# Altium footprint library PowerSupplyGOST.PcbLib: 13 footprints
Each footprint in its own frame and in the unit in brackets; x right, y up, seen from the top. Pads: shape width x height; smd on the part's side, far side on the other; paste and mask are expansions set on the pad; w line width, h text height; cw(c..) or ccw(c..) is an arc to the next point about the centre after c.
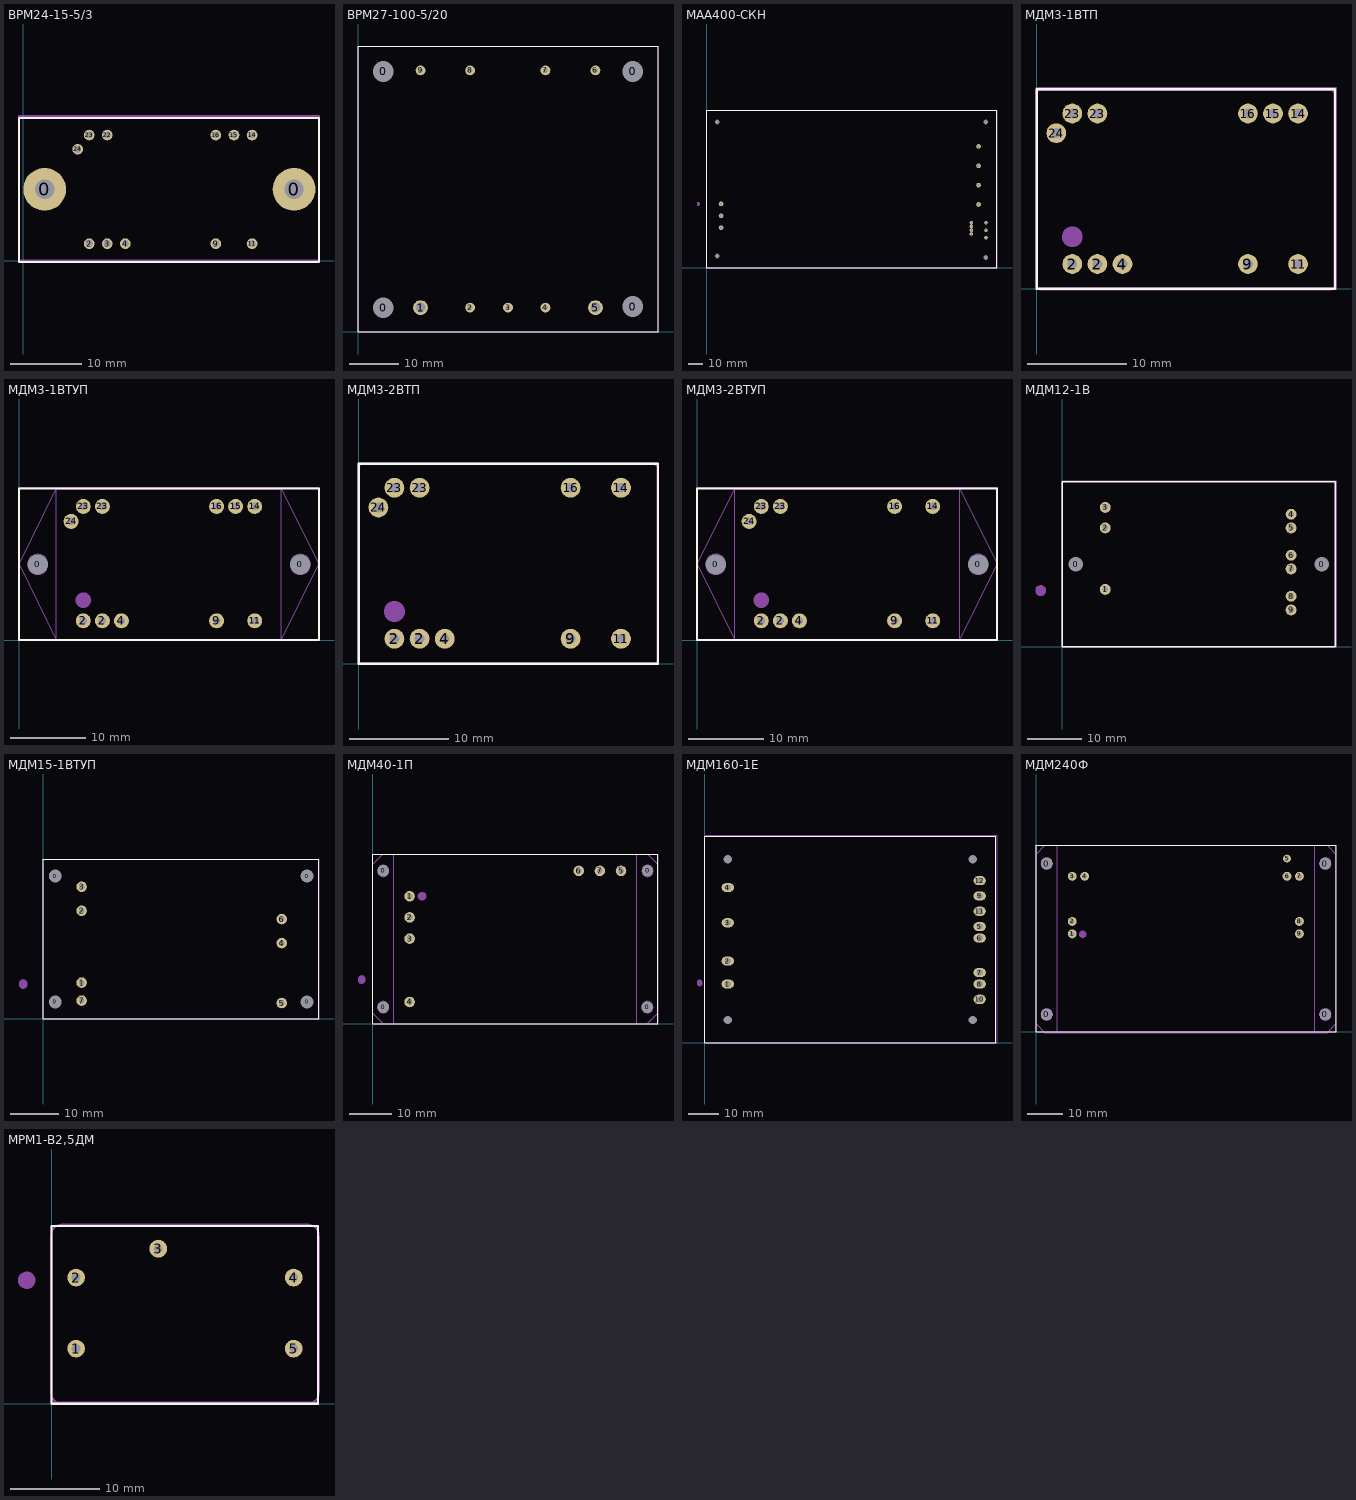
[diagram p0: the footprints below, top view; thin cyan lines are the x and y axes]

## ВРМ24-15-5/3 [mm]
height 10.2
pads (13):
  round 6 hole 2.7 unplated: 0(3,10) 0(38,10)
  round 1.5 hole 1: 2(9.25,2.38) 3(11.79,2.38) 4(14.33,2.38) 9(27.03,2.38) 11(32.11,2.38) 14(32.11,17.62) 15(29.57,17.62) 16(27.03,17.62) 22(11.79,17.62) 23(9.25,17.62) 24(7.63,15.63)
Top Overlay:
  lines w0.254: -0.6,-0.2 41.5,-0.2 41.5,20 -0.6,20 -0.6,-0.2
Top Sborka:
  lines w0.25: -0.6,0 41.5,0 41.5,20.3 -0.6,20.3 -0.6,0
Top Designator (Mech16):
  text ".Designator" at 14.85,9.353 h2.5
3D body "Сборка ВРМ24-15 со стойками.stp": height 14, standoff -6, extent 0.9,-0.1 40.9,19.9

## ВРМ27-100-5/20 [mm]
pads (13):
  round 3 hole 4.2 unplated: 0(5.1,4.875) 0(5.1,52.9) 0(55.9,5.1) 0(55.9,52.9)
  round 3 hole 2: 1(12.72,4.875) 5(48.28,4.875)
  round 2 hole 1: 2(22.8,4.875) 3(30.5,4.875) 4(38.12,4.875) 6(48.28,53.125) 7(38.12,53.125) 8(22.8,53.125) 9(12.72,53.125)
Top Overlay:
  lines w0.1: 0,0 0,58 61,58 61,0 0,0
Top Sborka:
  lines w0.1: 0,0 0,58 61,58 61,0 0,0
Top Designator (Mech16):
  text ".Designator" at 25.35,28.453 h2.5
3D body "ВРМ27-100.stp": height 14, standoff -4, extent 0,0 61,58

## МАА400-СКН [mm]
pads (18):
  rrect30% 0x0 hole 3.2 unplated: 0(7,8) 0(7,98) 0(187.5,7) 0(187.5,98)
  round 3.1 hole 2.1: 1(9.6,43) 2(9.6,35) 3(9.6,27) 7(182.6,42.6) 8(182.6,55.6) 9(182.6,68.6) 10(182.6,81.6)
  round 2.4 hole 1.4: 4(187.6,20.3) 5(187.6,25.3) 6(187.6,30.3) 11(177.8,22.8) 12(177.8,25.3) 13(177.8,27.8) 14(177.8,30.3)
Top Overlay:
  lines w0.254: 0,0 195,0 195,106 0,106 0,0
Top Sborka:
  circle w0.25: c-5.7,43 r0.704
  circle w0.25: c-5.7,43 r0.292
  circle w0.25: c-5.7,43 r0.861
  circle w0.25: c-5.7,43 r0.506
  circle w0.25: c-5.7,43 r0.09
  lines w0.25: 0,0 195,0 195,106 0,106 0,0
Top Designator (Mech16):
  text ".Designator" at 89.071,52.453 h2.5

## МДМ3-1ВТП [mm]
pads (11):
  round 2 hole 1: 2(3.6,2.525) 2(6.14,2.525) 4(8.68,2.525) 9(21.38,2.525) 11(26.46,2.525) 14(26.46,17.765) 15(23.92,17.765) 16(21.38,17.765) 23(3.6,17.765) 23(6.14,17.765) 24(1.98,15.775)
Top Overlay:
  lines w0.25: 0,0 30.2,0 30.2,20.2 0,20.2 0,0
Mechanical 1:
  circle w2: c3.6,5.275 r0.05
  lines w0.15: -0.075,19.745 -0.075,0.35 ccw(c0.31,0.335) 0.295,-0.05 ; -0.075,19.775 cw(c0.31,19.76) 0.325,20.145 29.755,20.145 ; 0.295,-0.055 29.755,-0.055 ; 29.725,-0.055 ccw(c29.74,0.33) 30.125,0.315 30.125,19.75 ccw(c29.74,19.765) 29.755,20.15
Top Sborka:
  lines w0.25: 0,0 30.3,0 30.3,20.3 0,20.3 0,0
Top Designator (Mech16):
  text ".Designator" at 9.85,9.453 h2.5
3D body "БКЯЮ.735313.001 Корпус 1C.stp": height 11.65, standoff 0.95, extent 0,0 30,20
3D body "d0.8.stp": height 10, standoff -5, extent 1.47,15.256 2.486,16.274
3D body "d0.8.stp": height 10, standoff -5, extent 3.09,17.256 4.106,18.274
3D body "d0.8.stp": height 10, standoff -5, extent 5.63,17.256 6.646,18.274
3D body "d0.8.stp": height 10, standoff -5, extent 20.87,17.256 21.886,18.274
3D body "d0.8.stp": height 10, standoff -5, extent 23.41,17.256 24.426,18.274
3D body "d0.8.stp": height 10, standoff -5, extent 25.95,17.256 26.966,18.274
3D body "d0.8.stp": height 10, standoff -5, extent 25.95,2.016 26.966,3.034
3D body "d0.8.stp": height 10, standoff -5, extent 20.87,2.016 21.886,3.034
3D body "d0.8.stp": height 10, standoff -5, extent 8.17,2.016 9.186,3.034
3D body "d0.8.stp": height 10, standoff -5, extent 5.63,2.016 6.646,3.034
3D body "d0.8.stp": height 10, standoff -5, extent 3.09,2.016 4.106,3.034
3D body: height 12, standoff 10, extent 2.601,1.528 4.6,3.523
3D body: height 2, standoff 1.08, extent 0.8,1.025 28.95,18.975

## МДМ3-1ВТУП [mm]
pads (13):
  round 1.524 hole 2.7 unplated: 0(2.5,10.1) 0(37.5,10.1)
  round 2 hole 1: 2(8.57,2.58) 2(11.11,2.58) 4(13.65,2.58) 9(26.35,2.58) 11(31.43,2.58) 14(31.43,17.82) 15(28.89,17.82) 16(26.35,17.82) 23(8.57,17.82) 23(11.11,17.82) 24(6.95,15.83)
Top Overlay:
  lines w0.254: 0,0 0,20.2 40,20.2 40,0 0,0
Mechanical 1:
  circle w2: c8.57,5.33 r0.05
  circle w0.1: c2.5,10.1 r1.35
  circle w0.1: c37.5,10.1 r1.35
  lines w0.15: 5,0 0,10.1 5,20.2 ; 5,0 5,20.2 ; 5,0 5,20.2 ; 5,0 35,0 ; 5,20.2 35,20.2 ; 35,0 40,10.1 35,20.2 ; 35,0 35,20.2
Top Sborka:
  lines w0.25: 0,0 40,0 40,20.3 0,20.3 0,0
Top Designator (Mech16):
  text ".Designator" at 14.85,9.602 h2.5
3D body "VDV8-1.stp": height 10.2, standoff -5.95, extent 0.02,0.005 40.02,20.205

## МДМ3-2ВТП [mm]
pads (10):
  round 2 hole 1: 2(3.6,2.525) 2(6.14,2.525) 4(8.68,2.525) 9(21.38,2.525) 11(26.46,2.525) 14(26.46,17.765) 16(21.38,17.765) 23(3.6,17.765) 23(6.14,17.765) 24(1.98,15.775)
Top Overlay:
  lines w0.25: 0,0 0,20.2 30.2,20.2 30.2,0 0,0
Mechanical 1:
  circle w2: c3.6,5.275 r0.05
  lines w0.15: -0.075,19.745 -0.075,0.35 ccw(c0.31,0.335) 0.295,-0.05 ; -0.075,19.775 cw(c0.31,19.76) 0.325,20.145 29.755,20.145 ; 0.295,-0.055 29.755,-0.055 ; 29.725,-0.055 ccw(c29.74,0.33) 30.125,0.315 30.125,19.75 ccw(c29.74,19.765) 29.755,20.15
Top Sborka:
  lines w0.25: 0,0 30.2,0 30.2,20.2 0,20.2 0,0
Top Designator (Mech16):
  text ".Designator" at 9.85,9.453 h2.5
3D body "БКЯЮ.735313.001 Корпус 1C.stp": height 11.65, standoff 0.95, extent 0,0 30,20
3D body "d0.8.stp": height 10, standoff -5, extent 1.47,15.256 2.486,16.274
3D body "d0.8.stp": height 10, standoff -5, extent 3.09,17.256 4.106,18.274
3D body "d0.8.stp": height 10, standoff -5, extent 5.63,17.256 6.646,18.274
3D body "d0.8.stp": height 10, standoff -5, extent 20.87,17.256 21.886,18.274
3D body "d0.8.stp": height 10, standoff -5, extent 25.95,17.256 26.966,18.274
3D body "d0.8.stp": height 10, standoff -5, extent 25.95,2.016 26.966,3.034
3D body "d0.8.stp": height 10, standoff -5, extent 20.87,2.016 21.886,3.034
3D body "d0.8.stp": height 10, standoff -5, extent 8.17,2.016 9.186,3.034
3D body "d0.8.stp": height 10, standoff -5, extent 5.63,2.016 6.646,3.034
3D body "d0.8.stp": height 10, standoff -5, extent 3.09,2.016 4.106,3.034
3D body: height 12, standoff 10, extent 2.601,1.528 4.6,3.523
3D body: height 2, standoff 1.08, extent 0.8,1.025 28.95,18.975

## МДМ3-2ВТУП [mm]
pads (12):
  round 1.524 hole 2.7 unplated: 0(2.5,10.1) 0(37.5,10.1)
  round 2 hole 1: 2(8.571,2.582) 2(11.111,2.582) 4(13.651,2.582) 9(26.351,2.582) 11(31.431,2.582) 14(31.431,17.822) 16(26.351,17.822) 23(8.571,17.822) 23(11.111,17.822) 24(6.951,15.832)
Top Overlay:
  lines w0.254: 0,0 0,20.2 40,20.2 40,0 0,0
Mechanical 1:
  circle w0.1: c37.501,10.102 r1.35
  circle w0.1: c2.501,10.102 r1.35
  circle w2: c8.571,5.332 r0.05
  lines w0.15: 5.001,0.002 35.001,0.002 ; 5.001,0.002 5.001,20.202 ; 5.001,0.002 5.001,20.202 ; 5.001,0.002 0.001,10.102 5.001,20.202 ; 5.001,20.202 35.001,20.202 ; 35.001,0.002 35.001,20.202 ; 35.001,0.002 40.001,10.102 35.001,20.202
Top Sborka:
  lines w0.25: 0,0 40,0 40,20.3 0,20.3 0,0
Top Designator (Mech16):
  text ".Designator" at 14.85,9.602 h2.5
3D body "VDV8-2.stp": height 10.2, standoff -5.95, extent -0.004,0.007 39.996,20.207

## МДМ12-1В [mm]
pads (11):
  round 2 hole 2.7 unplated: 0(2.5,15.1) 0(47.5,15.1)
  round 2 hole 1: 1(7.9,10.5) 2(7.9,21.75) 3(7.9,25.5) 4(41.9,24.25) 5(41.9,21.75) 6(41.9,16.75) 7(41.9,14.25) 8(41.9,9.25) 9(41.886,6.75)
Top Overlay:
  lines w0.254: 0,0 50,0 50,30.2 0.1,30.2 0,30.1 0,0
Top Sborka:
  circle w0.25: c-3.9,10.3 r0.09
  circle w0.25: c-3.9,10.3 r0.506
  circle w0.25: c-3.9,10.3 r0.861
  circle w0.25: c-3.9,10.3 r0.292
  circle w0.25: c-3.9,10.3 r0.704
  lines w0.25: 0,0 50.1,0 50.1,30.3 0,30.3 0,0
Top Designator (Mech16):
  text ".Designator" at 17.52,14.602 h2.5

## МДМ15-1ВТУП [mm]
pads (11):
  round 1.524 hole 2.7 unplated: 0(2.5,3.5) 0(2.5,29.7) 0(55,3.5) 0(55,29.7)
  round 2.2 hole 1.2: 1(8,7.5) 2(8,22.5) 3(8,27.5) 4(49.75,15.75) 5(49.75,3.25) 6(49.75,20.75) 7(8,3.75)
Top Overlay:
  lines w0.254: 0,0 57.5,0 57.5,33.2 0,33.2 0,0
Top Sborka:
  circle w0.25: c-4.2,7.2 r0.704
  circle w0.25: c-4.2,7.2 r0.292
  circle w0.25: c-4.2,7.2 r0.861
  circle w0.25: c-4.2,7.2 r0.506
  circle w0.25: c-4.2,7.2 r0.09
  lines w0.25: 0,0 57.5,0 57.5,33.2 0,33.2 0,0
Top Designator (Mech16):
  text ".Designator" at 21.071,16.053 h2.5

## МДМ40-1П [mm]
pads (11):
  round 2 hole 2.7 unplated: 0(2.5,4) 0(2.5,36.2) 0(64.975,4) 0(65.025,36.2)
  round 2.5 hole 1.3: 1(8.75,30.2) 2(8.75,25.2) 3(8.75,20.2) 4(8.75,5.2) 5(58.75,36.2) 6(48.75,36.2) 7(53.75,36.2)
Top Overlay:
  lines w0.254: 0,0 67.5,0 67.5,40.2 0,40.2 0,0
Mechanical 1:
  circle w0.1: c2.5,36.2 r1.35
  circle w0.1: c2.5,4 r1.35
  circle w0.1: c65.025,36.2 r1.35
  circle w0.1: c64.975,4 r1.35
  lines w0.15: 5,3.5 5,36.7 ; 10,0 64.975,0 67.5,2.525 67.5,37.725 65.025,40.2 10,40.2 ; 47.5,0 2.5,0 0,2.5 0,37.75 2.45,40.2 47.5,40.2 ; 52.5,0 5,0 5,40.2 52.5,40.2 ; 62.5,0 62.5,40.2
  lines w2: 11.663,30.166 cw(c11.7,30.2) 11.75,30.2
Top Sborka:
  circle w0.25: c-2.6,10.5 r0.09
  circle w0.25: c-2.6,10.5 r0.506
  circle w0.25: c-2.6,10.5 r0.861
  circle w0.25: c-2.6,10.5 r0.292
  circle w0.25: c-2.6,10.5 r0.704
  lines w0.25: 0,0 67.5,0 67.5,40.2 0,40.2 0,0
Top Designator (Mech16):
  text ".Designator" at 18.121,14.553 h2.5
3D body "VDV50-1.stp": height 10.15, standoff -6, extent 0,0 67.5,40.2

## МДМ160-1E [mm]
pads (16):
  round 0 hole 2.7 unplated: 0(7.5,7.5) 0(7.5,60) 0(87.5,7.5) 0(87.5,60)
  oval 4x3 hole 2: 1(7.5,19.25) 2(7.5,26.75) 3(7.5,39.25) 4(7.5,50.75) 5(89.75,38) 6(89.75,34.25) 7(89.75,23) 8(89.75,19.25) 9(89.75,48) 10(89.75,14.25) 11(89.75,43) 12(89.75,53)
Top Overlay:
  lines w0.254: 0,0 95,0 95,67.5 0,67.5 0,0
Top Sborka:
  circle w0.25: c-1.69,19.6 r0.704
  circle w0.25: c-1.69,19.6 r0.292
  circle w0.25: c-1.69,19.6 r0.861
  circle w0.25: c-1.69,19.6 r0.506
  circle w0.25: c-1.69,19.6 r0.09
  lines w0.25: 0,0 95.4,0 95.4,67.9 0,67.9 0,0
Top Designator (Mech16):
  text ".Designator" at 41.275,33.402 h2.5

## МДМ240Ф [mm] "нов.20.11.20"
pads (13):
  round 3.2 hole 3.2 unplated: 0(3,4.9) 0(3,47.4) 0(81.5,4.9) 0(81.5,47.4)
  round 2.5 hole 1.4: 1(10.2,27.6) 2(10.2,31.1) 3(10.2,43.8) 4(13.7,43.8) 6(70.7,43.8) 7(74.2,43.8) 8(74.2,31.1) 9(74.2,27.6)
  round 2.2 hole 1.2: 5(70.7,48.8)
Top Overlay:
  lines w0.25: 0,0 84.5,0 84.5,52.5 0,52.5 0,0
Mechanical 1:
  circle w0.1: c81.5,47.4 r1.6
  circle w0.1: c81.5,4.9 r1.6
  circle w0.1: c3,4.9 r1.6
  circle w0.1: c3,47.4 r1.6
  lines w0.15: 0,50 0,2.25 2.5,-0.2 82,-0.2 84.5,2.25 84.5,50 82,52.5 2.5,52.5 0.05,50.05 ; 6,-0.2 6,52.5 ; 78.5,-0.2 78.5,52.5
  lines w2: 13.138,27.391 cw(c13.175,27.425) 13.225,27.425
Top Sborka:
  lines w0.25: 0,0 84.5,0 84.5,52.5 0,52.5 0,0
Top Designator (Mech16):
  text ".Designator" at 36.85,25.453 h2.5
3D body "VFA2(4.5).stp": height 13, standoff -5.85, extent 0,0 84.5,52.5

## МРМ1-В2,5ДМ [mm]
pads (5):
  round 2 hole 1: 1(2.775,6.2) 2(2.775,14.2) 3(12.025,17.45) 4(27.275,14.2) 5(27.275,6.2)
Top Overlay:
  lines w0.254: 0,0 30,0 30,20 0,20 0,0
Mechanical 1:
  lines w0.15: -0.075,1.3 -0.075,18.85 cw(c1.275,18.85) 1.275,20.2 28.775,20.2 cw(c28.775,18.85) 30.125,18.85 30.125,1.3 ; -0.075,1.35 ccw(c1.275,1.35) 1.275,0 ; 26.275,0 1.225,0 28.825,0 ; 28.775,0 ccw(c28.775,1.35) 30.125,1.35
  text "5" at 24.775,5.7 h2
  text "4" at 24.525,13.7 h2
  text "3" at 13.775,16.95 h2
  text "2" at 4.275,13.45 h2
  text "1" at 4.525,5.45 h2
Top Sborka:
  circle w0.25: c-2.8,13.9 r0.09
  circle w0.25: c-2.8,13.9 r0.506
  circle w0.25: c-2.8,13.9 r0.861
  circle w0.25: c-2.8,13.9 r0.292
  circle w0.25: c-2.8,13.9 r0.704
  lines w0.25: 0,0.1 30,0.1 30,20 0,20 0,0.1
Top Designator (Mech16):
  text ".Designator" at 8.021,9.453 h2.5
3D body "МРМ1-Х2,5ДМ.stp": height 10.2, standoff -6, extent 0,0 30.2,20.2